# EAGLE library part 24P (library con-dg55)
DEGSON DG55 CONNECTOR
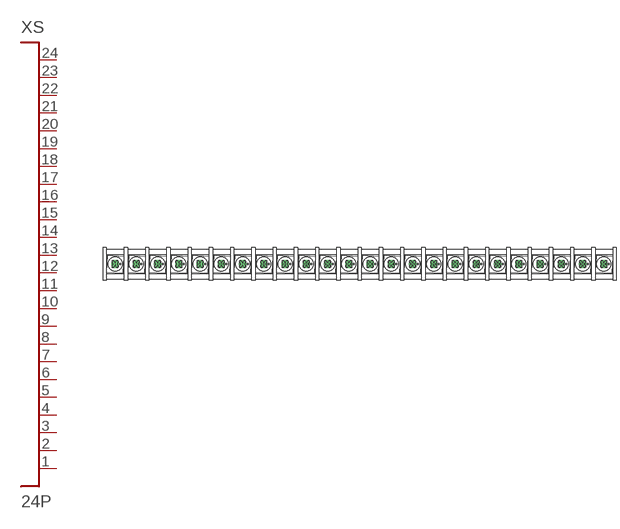
[diagram p18: symbol with the pads of DG55CB-24P-1; footprint DG55CB-24P-1]

Designator prefix XS

## 24P  [DG55CB-24P-1]
1  P$1
2  P$2
3  P$3
4  P$4
5  P$5
6  P$6
7  P$7
8  P$8
9  P$9
10  P$10
11  P$11
12  P$12
13  P$13
14  P$14
15  P$15
16  P$16
17  P$17
18  P$18
19  P$19
20  P$20
21  P$21
22  P$22
23  P$23
24  P$24

## Footprint DG55CB-24P-1 (pad centres in mm)
DG55
drill 1.8 pad 3.6: 1 -115,0; 2 -105,0; 3 -95,0; 4 -85,0; 5 -75,0; 6 -65,0; 7 -55,0; 8 -45,0; 9 -35,0; 10 -25,0; 11 -15,0; 12 -5,0; 13 5,0; 14 15,0; 15 25,0; 16 35,0; 17 45,0; 18 55,0; 19 65,0; 20 75,0; 21 85,0; 22 95,0; 23 105,0; 24 115,0